# Altium footprint library Pathos.PcbLib: 67 footprints (part 1 of 5)
Each footprint in its own frame and in the unit in brackets; x right, y up, seen from the top. Pads: shape width x height; smd on the part's side, far side on the other; paste and mask are expansions set on the pad; w line width, h text height; cw(c..) or ccw(c..) is an arc to the next point about the centre after c.
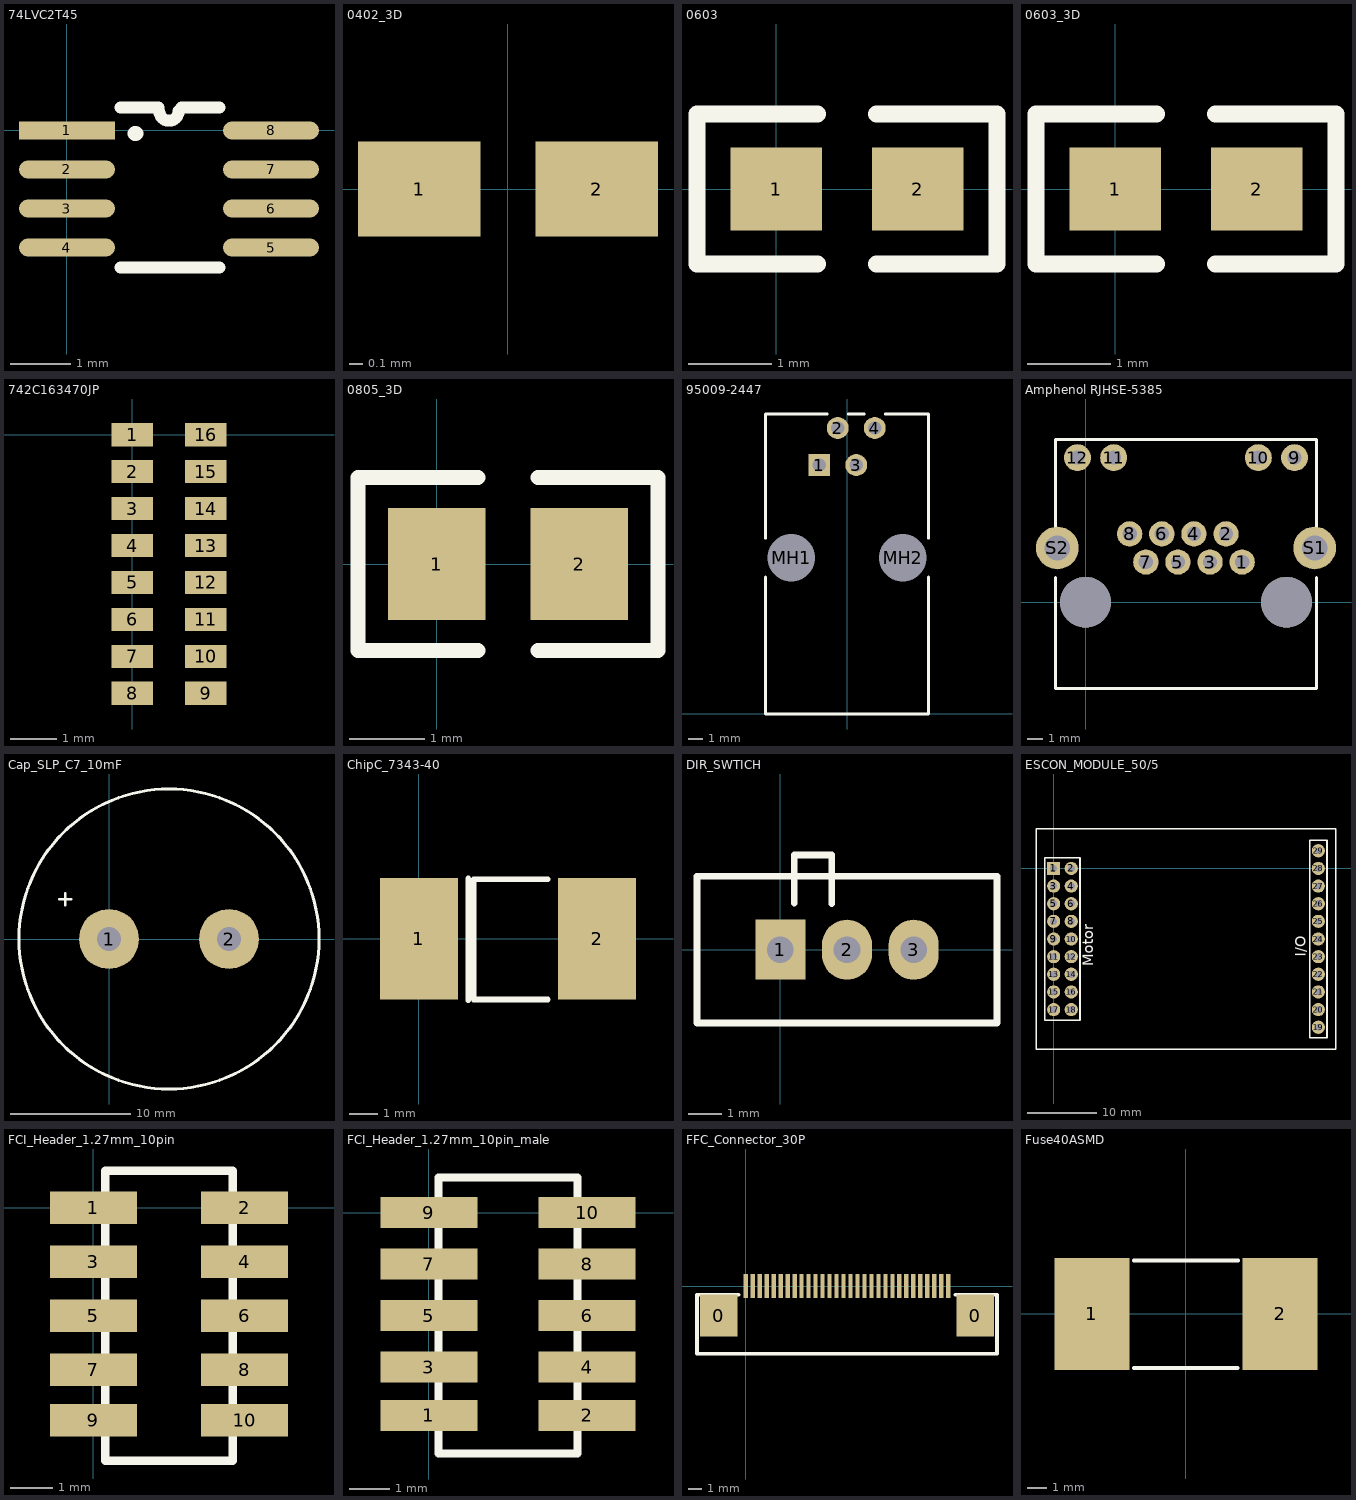
[diagram p0: the footprints below, top view; thin cyan lines are the x and y axes]

## 74LVC2T45 [mm]
pads (8):
  rect 1.6x0.3 smd: 1(0,0)
  oval 1.6x0.3 smd: 2(0,-0.65) 3(0,-1.3) 4(0,-1.95) 5(3.4,-1.95) 6(3.4,-1.3) 7(3.4,-0.65) 8(3.4,0)
Top Overlay:
  lines w0.2: 0.889,-2.286 2.54,-2.286 ; 0.889,0.381 1.524,0.381 ; 1.538,0.325 ccw(c1.7,0.325) 1.862,0.325 ; 1.905,0.381 2.54,0.381
  lines w0.254: 1.135,-0.051 1.145,-0.051

## 0402_3D [mm] "SMD Chip 040 x 020 mil or 1.0 x 0.5 mm"
height 0.6
pads (2):
  rect 0.9x0.7 smd: 1(-0.65,0) 2(0.65,0)
3D body: height 0.6, standoff 0, extent -0.559,-0.356 0.559,0.356

## 0603 [mm] "SMD Chip 0603"
height 0.3
pads (2):
  rect 1.1x1 smd: 1(0,0) 2(1.7,0)
Top Overlay:
  lines w0.2: 0.5,-0.9 -0.95,-0.9 -0.95,0.9 0.5,0.9 ; 1.2,-0.9 2.65,-0.9 2.65,0.9 1.2,0.9
3D body: height 0.6, standoff 0, extent -0.127,-0.508 1.778,0.508

## 0603_3D [mm] "SMD Chip 0603"
height 0.3
pads (2):
  rect 1.1x1 smd: 1(0,0) 2(1.7,0)
Top Overlay:
  lines w0.2: 0.5,-0.9 -0.95,-0.9 -0.95,0.9 0.5,0.9 ; 1.2,-0.9 2.65,-0.9 2.65,0.9 1.2,0.9
3D body: height 0.6, standoff 0, extent -0.127,-0.508 1.778,0.508

## 742C163470JP [mm]
pads (16):
  rect 0.9x0.5 smd: 1(0,0) 2(0,-0.8) 3(0,-1.6) 4(0,-2.4) 5(0,-3.2) 6(0,-4) 7(0,-4.8) 8(0,-5.6) 9(1.6,-5.6) 10(1.6,-4.8) 11(1.6,-4) 12(1.6,-3.2) 13(1.6,-2.4) 14(1.6,-1.6) 15(1.6,-0.8) 16(1.6,0)

## 0805_3D [mm] "SMD Chip 0805"
height 0.5
pads (2):
  rect 1.3x1.5 smd: 1(0,0) 2(1.9,0)
Top Overlay:
  lines w0.2: 0.55,-1.15 -1.05,-1.15 -1.05,1.15 0.55,1.15 ; 1.35,-1.15 2.95,-1.15 2.95,1.15 1.35,1.15
3D body: height 1.25, standoff 0, extent -0.152,-0.635 2.083,0.635

## 95009-2447 [mm] "Connector; PCB Jack, Thru-Hole; 1-Port, 4 Positions, 4 Loaded; Unshielded without Lightpipes; Right Angle"
height 16
pads (6):
  rect 1.5x1.5 hole 0.9: 1(-1.905,17.07)
  round 1.5 hole 0.9: 2(-0.635,19.61) 3(0.635,17.07) 4(1.905,19.61)
  round 2.95 hole 3.25 unplated: MH1(-3.81,10.72) MH2(3.81,10.72)
Top Overlay:
  lines w0.2: -5.59,9.388 -5.59,0 5.59,0 5.59,9.388 ; -5.59,12.052 -5.59,20.57 -1.355,20.57 ; 0.085,20.57 1.185,20.57 ; 2.625,20.57 5.59,20.57 5.59,12.052

## Amphenol RJHSE-5385 [mm] "RJ45 Connector"
height 14.22
pads (16):
  round 1.6 hole 0.9: 1(9.9,2.54) 2(8.88,4.32) 3(7.87,2.54) 4(6.85,4.32) 5(5.84,2.54) 6(4.82,4.32) 7(3.81,2.54) 8(2.79,4.32)
  round 1.7 hole 0.9: 9(13.21,9.14) 10(10.92,9.14) 11(1.78,9.14) 12(-0.51,9.14)
  round 2.7 hole 1.6: S1(14.48,3.43) S2(-1.78,3.43)
  round 3.2 hole 3.2: ""(0,0) ""(12.7,0)
Top Overlay:
  lines w0.2: -1.9,1.556 -1.9,-5.46 14.6,-5.46 14.6,1.556 ; -1.9,4.528 -1.9,10.29 14.6,10.29 14.6,4.528
3D body: height 13.5, standoff 0, extent -1.9,-5.46 14.6,10.29

## Cap_SLP_C7_10mF [mm]
pads (2):
  round 5 hole 2: 1(0,0) 2(10,0)
Top Overlay:
  circle w0.254: c5,0 r12.5
  lines w0.2: -4.145,3.327 -3.129,3.327 ; -3.637,2.819 -3.637,3.835

## ChipC_7343-40 [mm]
pads (2):
  rect 2.75x4.3 smd: 1(0,0) 2(6.3,0)
Top Overlay:
  lines w0.2: 1.75,-2.175 1.75,2.125 ; 4.55,-2.15 1.94,-2.15 1.94,2.1 4.55,2.1
3D body: height 4, standoff 0, extent -0.508,-2.134 6.68,2.159

## DIR_SWTICH [mm]
pads (3):
  rect 1.5x1.8 hole 0.8: 1(0,0)
  oval 1.5x1.8 hole 0.8: 2(2,0) 3(4,0)
Top Overlay:
  lines w0.2: 0.421,1.397 0.421,2.841 1.538,2.841 1.538,1.374 ; -2.5,-2.2 6.5,-2.2 6.5,2.2 -2.5,2.2 -2.5,-2.2

## ESCON_MODULE_50/5 [mm]
pads (29):
  rect 1.9x1.9 hole 1: 1(0,0)
  round 1.9 hole 1: 2(2.54,0) 3(0,-2.54) 4(2.54,-2.54) 5(0,-5.08) 6(2.54,-5.08) 7(0,-7.62) 8(2.54,-7.62) 9(0,-10.16) 10(2.54,-10.16) 11(0,-12.7) 12(2.54,-12.7) 13(0,-15.24) 14(2.54,-15.24) 15(0,-17.78) 16(2.54,-17.78) 17(0,-20.32) 18(2.54,-20.32) 19(38.1,-22.86) 20(38.1,-20.32) 21(38.1,-17.78) 22(38.1,-15.24) 23(38.1,-12.7) 24(38.1,-10.16) 25(38.1,-7.62) 26(38.1,-5.08) 27(38.1,-2.54) 28(38.1,0) 29(38.1,2.54)
Top Overlay:
  lines w0.2: -2.54,-26.035 -2.54,5.715 40.64,5.715 40.64,-26.035 -2.54,-26.035
  lines w0.254: -1.27,-21.84 3.81,-21.84 3.81,1.52 -1.27,1.52 -1.27,-21.84 ; 36.85,-24.38 36.85,4.06 39.35,4.06 39.35,-24.38 36.85,-24.38
  text "I/O" at 36.25,-12.751 h1.52
  text "Motor" at 5.719,-14.071 h1.52
3D body: height 12.65, standoff 0.2, extent -2.54,-26.035 40.64,5.715

## FCI_Header_1.27mm_10pin [mm] "Farnell Nr. :  1865309"
pads (10):
  rect 2.05x0.76 smd: 1(0,0) 2(3.55,0) 3(0,-1.27) 4(3.55,-1.27) 5(0,-2.54) 6(3.55,-2.54) 7(0,-3.81) 8(3.55,-3.81) 9(0,-5) 10(3.55,-5)
Top Overlay:
  lines w0.2: 0.275,0.865 0.275,-5.945 3.275,-5.945 3.275,0.87 0.275,0.87
3D body: height 4.5, standoff 0, extent 0.275,-5.945 3.275,0.87

## FCI_Header_1.27mm_10pin_male [mm] "Farnell Nr. :  1865279"
pads (10):
  rect 2.4x0.76 smd: 1(0,-5) 2(3.9,-5) 3(0,-3.81) 4(3.9,-3.81) 5(0,-2.54) 6(3.9,-2.54) 7(0,-1.27) 8(3.9,-1.27) 9(0,0) 10(3.9,0)
Top Overlay:
  lines w0.2: 0.235,-5.945 0.235,0.865 3.665,0.865 3.665,-5.945 0.235,-5.945
3D body: height 1.5, standoff 0, extent 0.235,-5.945 3.665,0.865
3D body: height 5, standoff 0, extent 1.194,-5.945 2.692,0.865

## FFC_Connector_30P [mm]
pads (32):
  rect 2.7x3 smd: 0(-1.93,-2.11) 0(16.43,-2.11)
  rect 0.3x1.7 smd: 1(14.5,0) 2(14,0) 3(13.5,0) 4(13,0) 5(12.5,0) 6(12,0) 7(11.5,0) 8(11,0) 9(10.5,0) 10(10,0) 11(9.5,0) 12(9,0) 13(8.5,0) 14(8,0) 15(7.5,0) 16(7,0) 17(6.5,0) 18(6,0) 19(5.5,0) 20(5,0) 21(4.5,0) 22(4,0) 23(3.5,0) 24(3,0) 25(2.5,0) 26(2,0) 27(1.5,0) 28(1,0) 29(0.5,0) 30(0,0)
Top Overlay:
  lines w0.254: -0.5,-0.61 -3.5,-0.61 -3.5,-4.85 18,-4.85 18,-0.61 15,-0.61
3D body: height 2, standoff 0, extent -3.505,-4.851 18.009,-0.635

## Fuse40ASMD [mm]
pads (2):
  rect 3.79x5.65 smd: 1(-4.755,0) 2(4.755,0)
Top Overlay:
  lines w0.2: -2.629,-2.718 2.601,-2.718 ; -2.629,2.692 2.63,2.692